# Altium footprint library MB10S.PcbLib: 1 footprints
Each footprint in its own frame and in the unit in brackets; x right, y up, seen from the top. Pads: shape width x height; smd on the part's side, far side on the other; paste and mask are expansions set on the pad; w line width, h text height; cw(c..) or ccw(c..) is an arc to the next point about the centre after c.
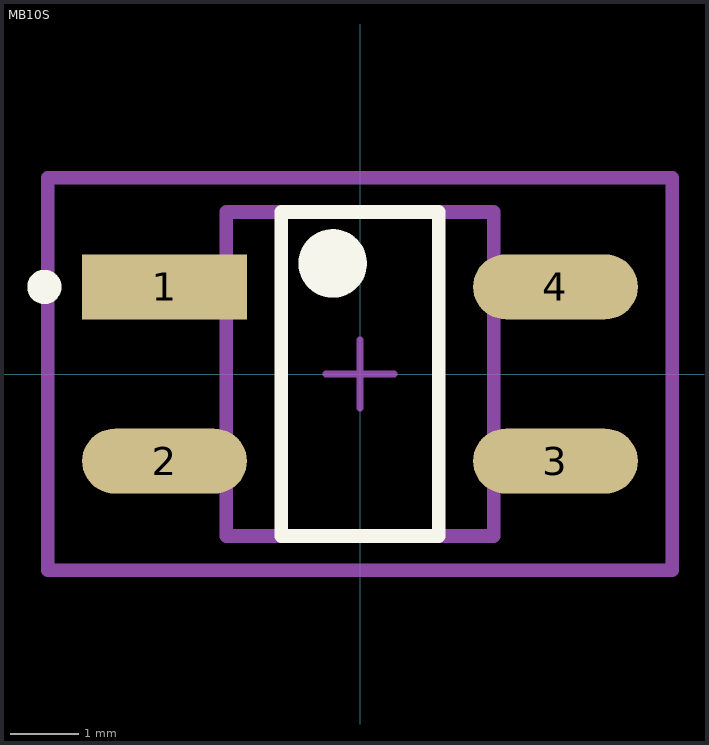
[diagram p0: the footprint, top view; thin cyan lines are the x and y axes]

## MB10S [mil]
pads (4):
  rect 94.62x37.25 smd paste+0 mask+0: 1(-112.22,50)
  rrect100% 94.62x37.25 smd paste+0 mask+0: 2(-112.22,-50) 3(112.22,-50) 4(112.22,50)
Top Overlay:
  circle w19.68: c-15.7,63.48 r9.84
  circle w9.84: c-181.18,50 r4.92
  lines w7.87: -45.23,-93.01 45.23,-93.01 45.23,93.01 -45.23,93.01 -45.23,-93.01
Top Assembly:
  lines w7.87: -179.22,-112.7 179.22,-112.7 179.22,112.7 -179.22,112.7 -179.22,-112.7
Top 3D Body:
  lines w7.87: -76.77,-93.01 76.77,-93.01 76.77,93.01 -76.77,93.01 -76.77,-93.01
Top Courtyard:
  lines w7.87: -179.22,-112.7 179.22,-112.7 179.22,112.7 -179.22,112.7 -179.22,-112.7
Top Component Center:
  lines w3.94: -19.68,0 19.68,0 ; 0,-19.68 0,19.68
3D body "Diode_ON_Semiconductor_MB4S_eec.STEP": height 10, standoff 0, extent -179.22,-112.7 179.22,112.7